# Altium schematic symbol library Digital.SchLib: 68 symbols (part 2 of 2)
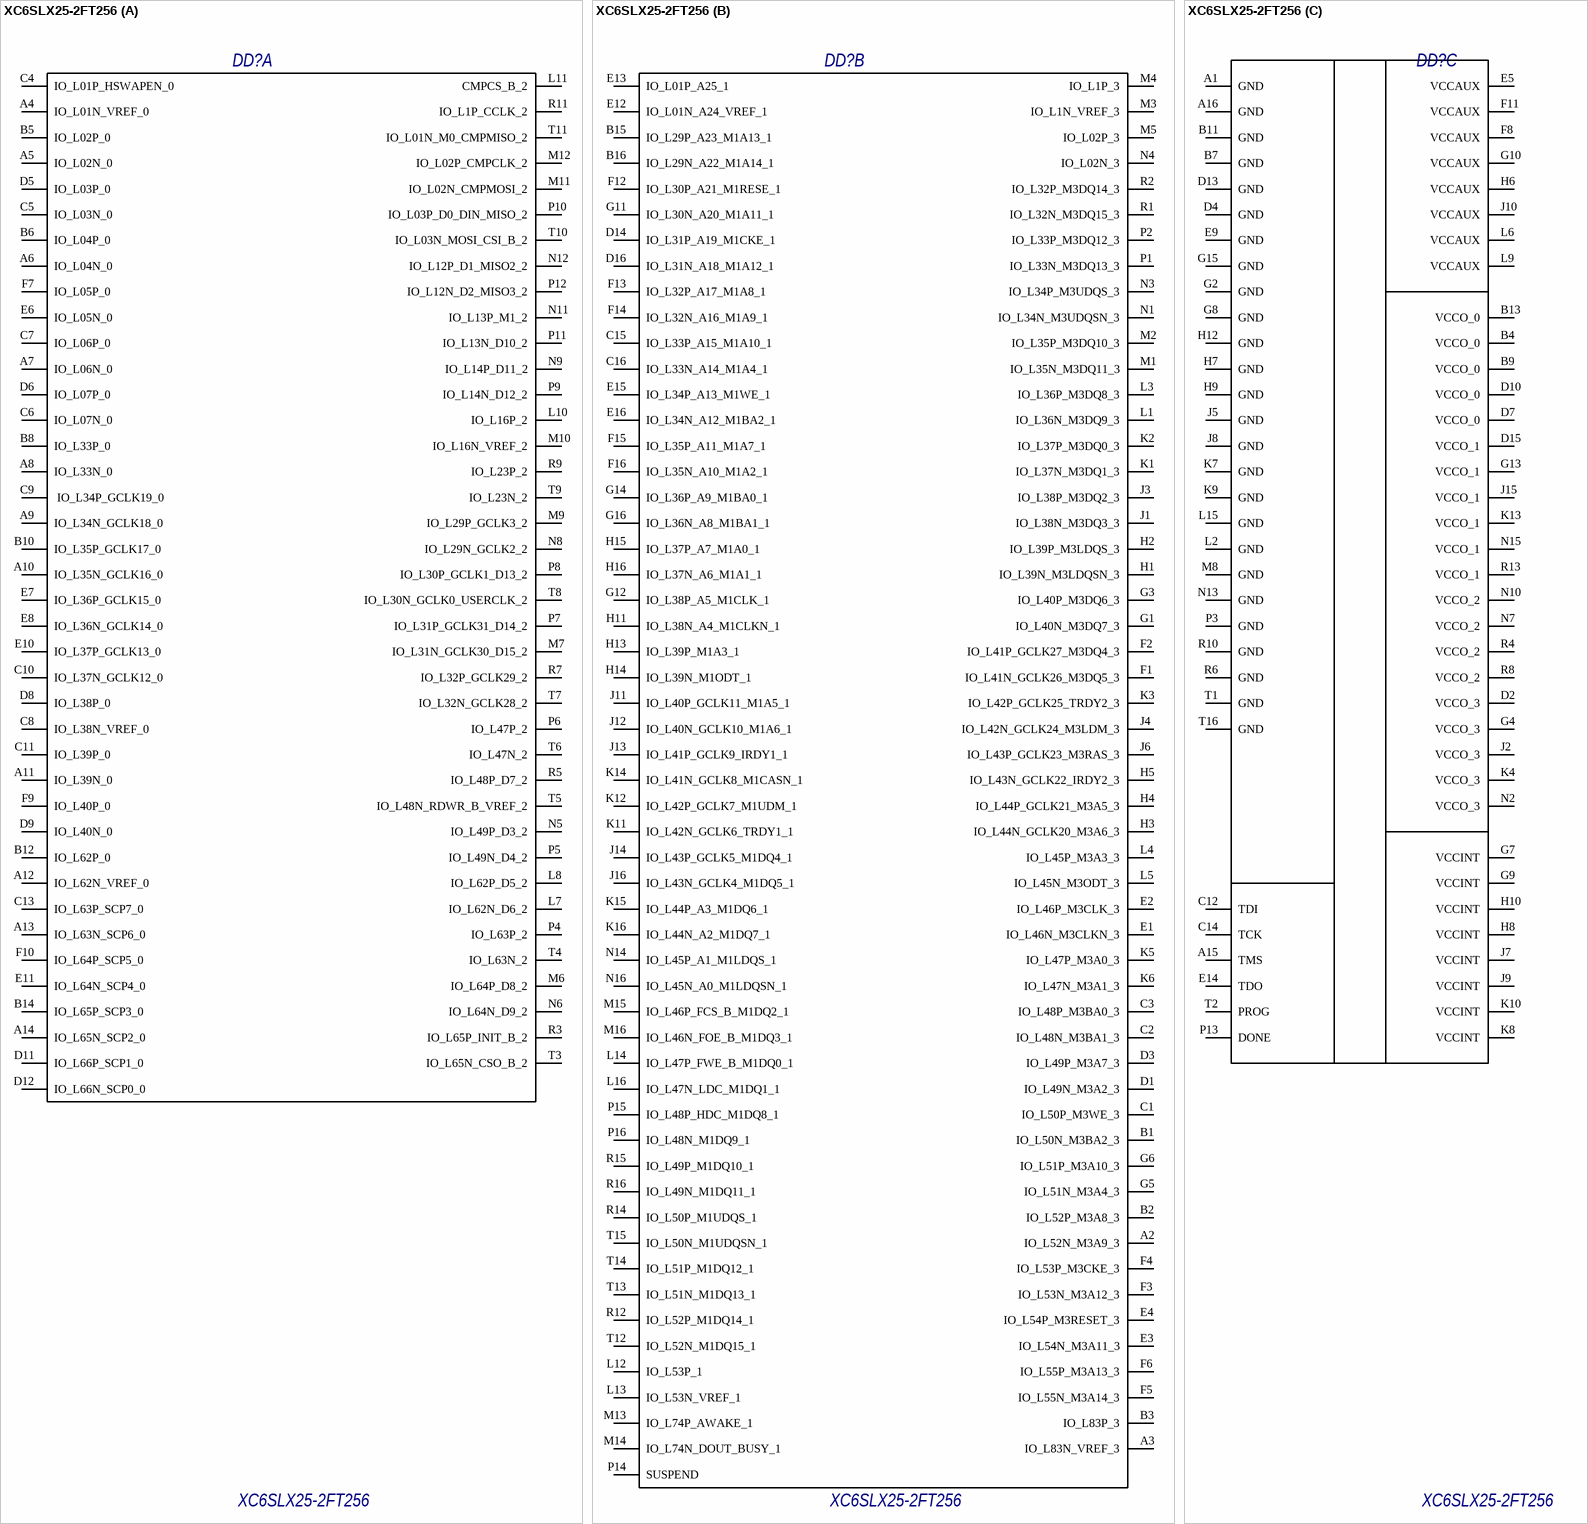
[diagram p17: symbol XC6SLX25-2FT256]

## XC6SLX25-2FT256
designator DD?, comment PartNumber: XC6SLX25-2FT256  (hidden comment: Микросхема XC6SLX25-2FT256 фирма "Xilinx")
FPGA - Field Programmable Gate Array; GOST: Микросхема XC6SLX25-2FT256 фирма "Xilinx"
footprint FTBGA-256 (BGA256 17x17 pitch 1mm)
part A pins: A4 IO_L01N_VREF_0, A5 IO_L02N_0, A6 IO_L04N_0, A7 IO_L06N_0, A8 IO_L33N_0, A9 IO_L34N_GCLK18_0, A10 IO_L35N_GCLK16_0, A11 IO_L39N_0, A12 IO_L62N_VREF_0, A13 IO_L63N_SCP6_0, A14 IO_L65N_SCP2_0, B5 IO_L02P_0, B6 IO_L04P_0, B8 IO_L33P_0, B10 IO_L35P_GCLK17_0, B12 IO_L62P_0, B14 IO_L65P_SCP3_0, C4 IO_L01P_HSWAPEN_0, C5 IO_L03N_0, C6 IO_L07N_0, C7 IO_L06P_0, C8 IO_L38N_VREF_0, C9  IO_L34P_GCLK19_0, C10 IO_L37N_GCLK12_0, C11 IO_L39P_0, C13 IO_L63P_SCP7_0, D5 IO_L03P_0, D6 IO_L07P_0, D8 IO_L38P_0, D9 IO_L40N_0, D11 IO_L66P_SCP1_0, D12 IO_L66N_SCP0_0, E6 IO_L05N_0, E7 IO_L36P_GCLK15_0, E8 IO_L36N_GCLK14_0, E10 IO_L37P_GCLK13_0, E11 IO_L64N_SCP4_0, F7 IO_L05P_0, F9 IO_L40P_0, F10 IO_L64P_SCP5_0, L7 IO_L62N_D6_2, L8 IO_L62P_D5_2, L10 IO_L16P_2, L11 CMPCS_B_2, M6 IO_L64P_D8_2, M7 IO_L31N_GCLK30_D15_2, M9 IO_L29P_GCLK3_2, M10 IO_L16N_VREF_2, M11 IO_L02N_CMPMOSI_2, M12 IO_L02P_CMPCLK_2, N5 IO_L49P_D3_2, N6 IO_L64N_D9_2, N8 IO_L29N_GCLK2_2, N9 IO_L14P_D11_2, N11 IO_L13P_M1_2, N12 IO_L12P_D1_MISO2_2, P4 IO_L63P_2, P5 IO_L49N_D4_2, P6 IO_L47P_2, P7 IO_L31P_GCLK31_D14_2, P8 IO_L30P_GCLK1_D13_2, P9 IO_L14N_D12_2, P10 IO_L03P_D0_DIN_MISO_2, P11 IO_L13N_D10_2, P12 IO_L12N_D2_MISO3_2, R3 IO_L65P_INIT_B_2, R5 IO_L48P_D7_2, R7 IO_L32P_GCLK29_2, R9 IO_L23P_2, R11 IO_L1P_CCLK_2, T3 IO_L65N_CSO_B_2, T4 IO_L63N_2, T5 IO_L48N_RDWR_B_VREF_2, T6 IO_L47N_2, T7 IO_L32N_GCLK28_2, T8 IO_L30N_GCLK0_USERCLK_2, T9 IO_L23N_2, T10 IO_L03N_MOSI_CSI_B_2, T11 IO_L01N_M0_CMPMISO_2
part B pins: A2 IO_L52N_M3A9_3, A3 IO_L83N_VREF_3, B1 IO_L50N_M3BA2_3, B2 IO_L52P_M3A8_3, B3 IO_L83P_3, B15 IO_L29P_A23_M1A13_1, B16 IO_L29N_A22_M1A14_1, C1 IO_L50P_M3WE_3, C2 IO_L48N_M3BA1_3, C3 IO_L48P_M3BA0_3, C15 IO_L33P_A15_M1A10_1, C16 IO_L33N_A14_M1A4_1, D1 IO_L49N_M3A2_3, D3 IO_L49P_M3A7_3, D14 IO_L31P_A19_M1CKE_1, D16 IO_L31N_A18_M1A12_1, E1 IO_L46N_M3CLKN_3, E2 IO_L46P_M3CLK_3, E3 IO_L54N_M3A11_3, E4 IO_L54P_M3RESET_3, E12 IO_L01N_A24_VREF_1, E13 IO_L01P_A25_1, E15 IO_L34P_A13_M1WE_1, E16 IO_L34N_A12_M1BA2_1, F1 IO_L41N_GCLK26_M3DQ5_3, F2 IO_L41P_GCLK27_M3DQ4_3, F3 IO_L53N_M3A12_3, F4 IO_L53P_M3CKE_3, F5 IO_L55N_M3A14_3, F6 IO_L55P_M3A13_3, F12 IO_L30P_A21_M1RESE_1, F13 IO_L32P_A17_M1A8_1, F14 IO_L32N_A16_M1A9_1, F15 IO_L35P_A11_M1A7_1, F16 IO_L35N_A10_M1A2_1, G1 IO_L40N_M3DQ7_3, G3 IO_L40P_M3DQ6_3, G5 IO_L51N_M3A4_3, G6 IO_L51P_M3A10_3, G11 IO_L30N_A20_M1A11_1, G12 IO_L38P_A5_M1CLK_1, G14 IO_L36P_A9_M1BA0_1, G16 IO_L36N_A8_M1BA1_1, H1 IO_L39N_M3LDQSN_3, H2 IO_L39P_M3LDQS_3, H3 IO_L44N_GCLK20_M3A6_3, H4 IO_L44P_GCLK21_M3A5_3, H5 IO_L43N_GCLK22_IRDY2_3, H11 IO_L38N_A4_M1CLKN_1, H13 IO_L39P_M1A3_1, H14 IO_L39N_M1ODT_1, H15 IO_L37P_A7_M1A0_1, H16 IO_L37N_A6_M1A1_1, J1 IO_L38N_M3DQ3_3, J3 IO_L38P_M3DQ2_3, J4 IO_L42N_GCLK24_M3LDM_3, J6 IO_L43P_GCLK23_M3RAS_3, J11 IO_L40P_GCLK11_M1A5_1, J12 IO_L40N_GCLK10_M1A6_1, J13 IO_L41P_GCLK9_IRDY1_1, J14 IO_L43P_GCLK5_M1DQ4_1, J16 IO_L43N_GCLK4_M1DQ5_1, K1 IO_L37N_M3DQ1_3, K2 IO_L37P_M3DQ0_3, K3 IO_L42P_GCLK25_TRDY2_3, K5 IO_L47P_M3A0_3, K6 IO_L47N_M3A1_3, K11 IO_L42N_GCLK6_TRDY1_1, K12 IO_L42P_GCLK7_M1UDM_1, K14 IO_L41N_GCLK8_M1CASN_1, K15 IO_L44P_A3_M1DQ6_1, K16 IO_L44N_A2_M1DQ7_1, L1 IO_L36N_M3DQ9_3, L3 IO_L36P_M3DQ8_3, L4 IO_L45P_M3A3_3, L5 IO_L45N_M3ODT_3, L12 IO_L53P_1, L13 IO_L53N_VREF_1, L14 IO_L47P_FWE_B_M1DQ0_1, L16 IO_L47N_LDC_M1DQ1_1, M1 IO_L35N_M3DQ11_3, M2 IO_L35P_M3DQ10_3, M3 IO_L1N_VREF_3, M4 IO_L1P_3, M5 IO_L02P_3, M13 IO_L74P_AWAKE_1, M14 IO_L74N_DOUT_BUSY_1, M15 IO_L46P_FCS_B_M1DQ2_1, M16 IO_L46N_FOE_B_M1DQ3_1, N1 IO_L34N_M3UDQSN_3, N3 IO_L34P_M3UDQS_3, N4 IO_L02N_3, N14 IO_L45P_A1_M1LDQS_1, N16 IO_L45N_A0_M1LDQSN_1, P1 IO_L33N_M3DQ13_3, P2 IO_L33P_M3DQ12_3, P14 SUSPEND, P15 IO_L48P_HDC_M1DQ8_1, P16 IO_L48N_M1DQ9_1, R1 IO_L32N_M3DQ15_3, R2 IO_L32P_M3DQ14_3, R12 IO_L52P_M1DQ14_1, R14 IO_L50P_M1UDQS_1, R15 IO_L49P_M1DQ10_1, R16 IO_L49N_M1DQ11_1, T12 IO_L52N_M1DQ15_1, T13 IO_L51N_M1DQ13_1, T14 IO_L51P_M1DQ12_1, T15 IO_L50N_M1UDQSN_1
part C pins: A1 GND, A15 TMS, A16 GND, B4 VCCO_0, B7 GND, B9 VCCO_0, B11 GND, B13 VCCO_0, C12 TDI, C14 TCK, D2 VCCO_3, D4 GND, D7 VCCO_0, D10 VCCO_0, D13 GND, D15 VCCO_1, E5 VCCAUX, E9 GND, E14 TDO, F8 VCCAUX, F11 VCCAUX, G2 GND, G4 VCCO_3, G7 VCCINT, G8 GND, G9 VCCINT, G10 VCCAUX, G13 VCCO_1, G15 GND, H6 VCCAUX, H7 GND, H8 VCCINT, H9 GND, H10 VCCINT, H12 GND, J2 VCCO_3, J5 GND, J7 VCCINT, J8 GND, J9 VCCINT, J10 VCCAUX, J15 VCCO_1, K4 VCCO_3, K7 GND, K8 VCCINT, K9 GND, K10 VCCINT, K13 VCCO_1, L2 GND, L6 VCCAUX, L9 VCCAUX, L15 GND, M8 GND, N2 VCCO_3, N7 VCCO_2, N10 VCCO_2, N13 GND, N15 VCCO_1, P3 GND, P13 DONE, R4 VCCO_2, R6 GND, R8 VCCO_2, R10 GND, R13 VCCO_1, T1 GND, T2 PROG, T16 GND

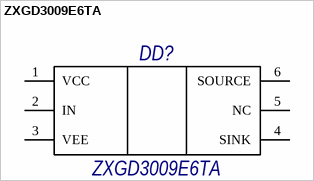
[diagram p16: symbol ZXGD3009E6TA]

## ZXGD3009E6TA
designator DD?, comment PartNumber: ZXGD3009E6TA  (hidden comment: Микросхема ZXGD3009E6TA фирма "Diodes Incorporated")
Low-Side Gate Driver IC Non-Inverting SOT-26; Manufacturer: Diodes Incorporated; Pattern: SOT-26; GOST: Микросхема ZXGD3009E6TA фирма "Diodes Incorporated"
footprint SOT-26-6 (3.0mm x 3.0mm H=1.4mm max, (SC74R))
pins: 1 VCC, 2 IN, 3 VEE, 4 SINK, 5 NC, 6 SOURCE